# Altium schematic symbol library QUTMS_MOSFETLibrary.SchLib: 2 symbols
Pins are listed as number, name and electrical type; pins without a type are passive.

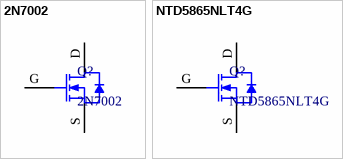
[diagram p0: symbols 2N7002 to NTD5865NLT4G]

## 2N7002
designator Q?
footprint SOT23-3 (SOT23, 3-Leads, Body 2.90x2.45mm, Pitch 0.95mm, IPC Medium Density)
pins: D, G, S

## NTD5865NLT4G
designator Q?
NTD5865NLT4G, 60V 46A
footprint DPAK TO-252
pins: D, G, S